# Altium footprint library Driver.pcblib: 20 footprints (part 1 of 2)
Each footprint in its own frame and in the unit in brackets; x right, y up, seen from the top. Pads: shape width x height; smd on the part's side, far side on the other; paste and mask are expansions set on the pad; w line width, h text height; cw(c..) or ccw(c..) is an arc to the next point about the centre after c.
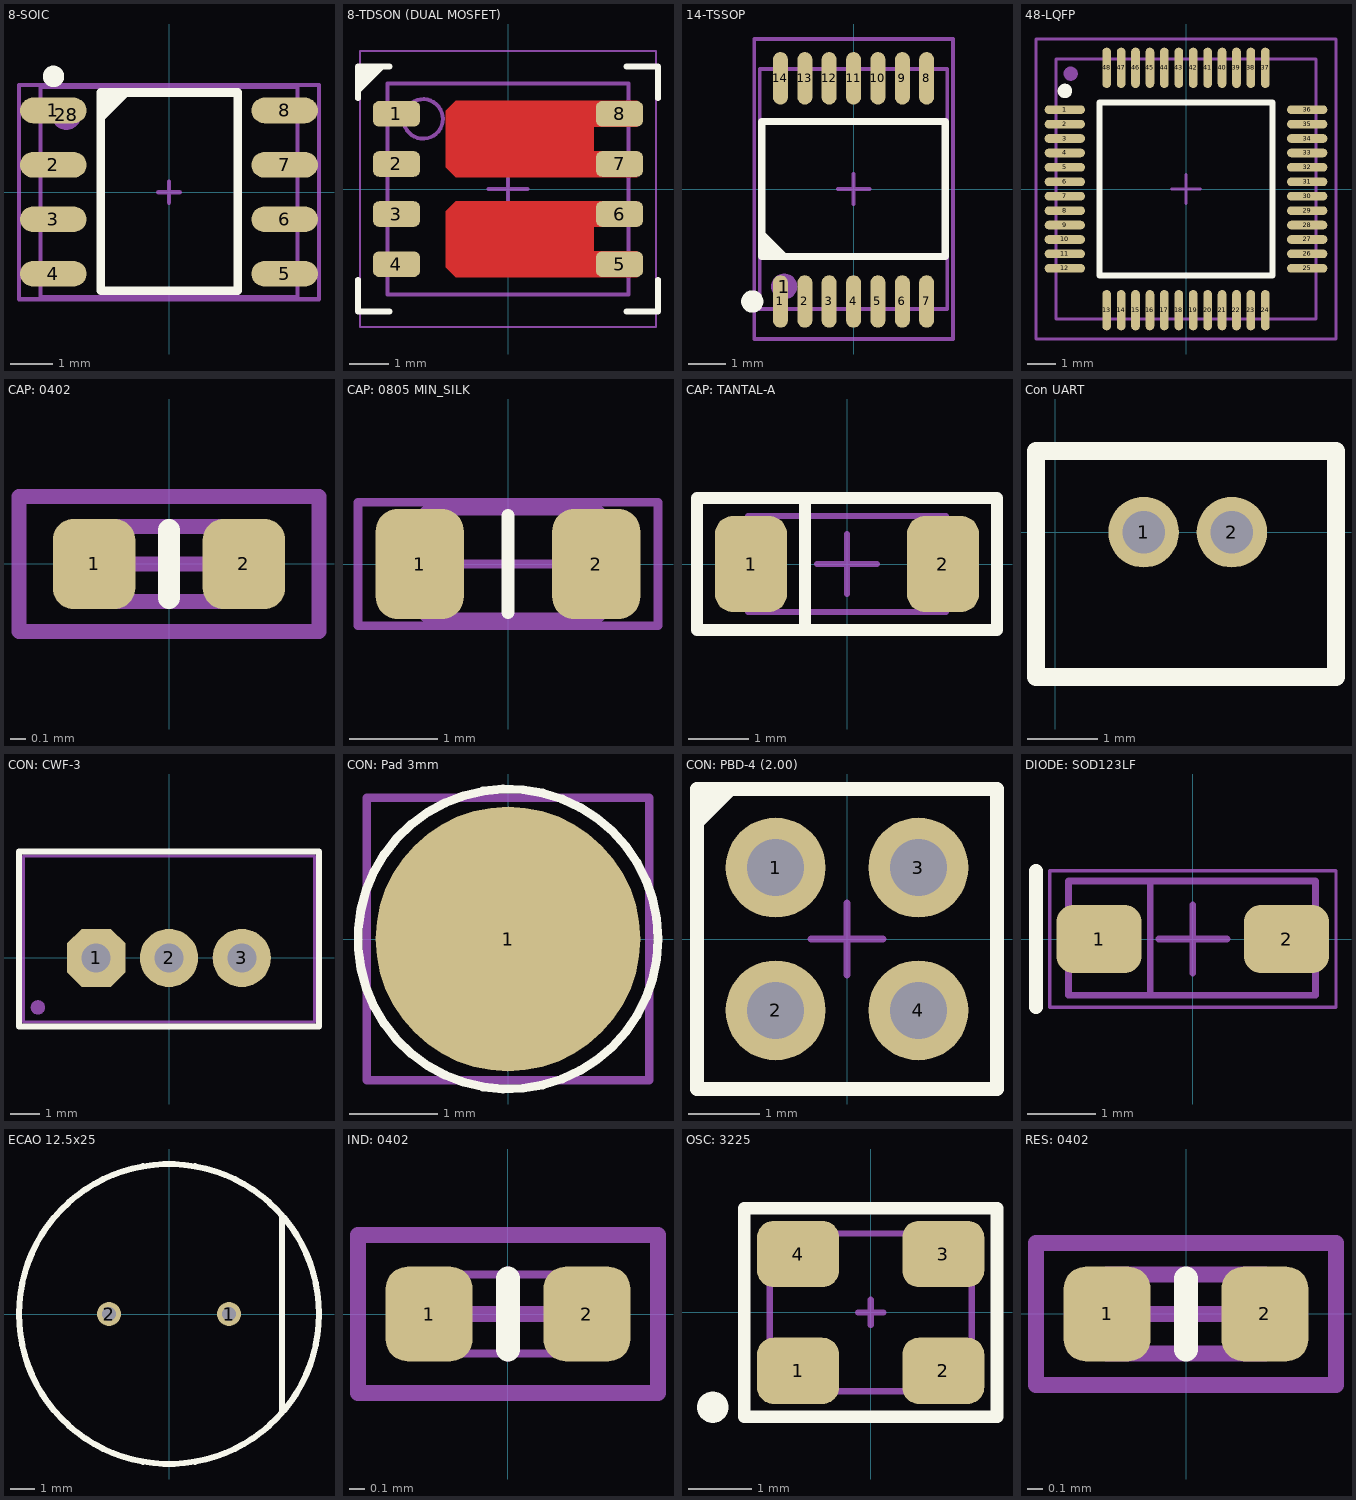
[diagram p0: the footprints below, top view; thin cyan lines are the x and y axes]

## 8-SOIC [mm]
pads (9):
  rrect100% 1.55x0.6 smd: 1(-2.7,1.905) 2(-2.7,0.635) 3(-2.7,-0.635) 4(-2.7,-1.905) 5(2.7,-1.905) 6(2.7,-0.635) 7(2.7,0.635) 8(2.7,1.905)
  round 0.7 on Mech1: 28(-2.395,1.8)
Top Overlay:
  circle w0.25: c-2.695,2.7 r0.125
  region: -1.595,2.325 -1.595,1.605 -0.875,2.325
  lines w0.2: -1.595,-2.3 -1.595,2.325 1.605,2.325 1.605,-2.3 -1.595,-2.3
Mechanical 1:
  lines w0.1: -3,-2.45 3,-2.45 3,2.45 -3,2.45 -3,-2.45
Top Assembly:
  lines w0.1: -0.25,0 0.25,0 ; 0,-0.25 0,0.25 ; -3.5,-2.5 3.5,-2.5 3.5,2.5 -3.5,2.5 -3.5,-2.5
3D body "User Library-SOIC-8-1.STEP": height 1.75, standoff 0, extent -3,-2.45 3,2.45

## 8-TDSON (DUAL MOSFET) [mm]
pads (8):
  rrect50% 1.2x0.65 smd: 1(-2.825,1.905) 2(-2.825,0.635) 3(-2.825,-0.635) 4(-2.825,-1.905) 5(2.825,-1.905) 6(2.825,-0.635) 7(2.825,0.635) 8(2.825,1.905)
Top Layer:
  region: 3.275,-0.311 -1.325,-0.311 -1.575,-0.561 -1.575,-1.98 -1.325,-2.23 3.275,-2.23 3.275,-1.58 2.175,-1.58 2.175,-0.959 3.275,-0.959
  region: 3.275,2.23 -1.325,2.23 -1.575,1.98 -1.575,0.55 -1.325,0.3 3.275,0.3 3.275,0.961 2.175,0.961 2.175,1.579 3.275,1.579
Top Overlay:
  region: -3.8,2.4 -3.1,3.1 -3.8,3.1
  lines w0.15: -3.8,-2.3 -3.8,-3.1 -3,-3.1 ; -3.8,2.3 -3.8,3.1 -3,3.1 ; 3,-3.1 3.8,-3.1 3.8,-2.3 ; 3,3.1 3.8,3.1 3.8,2.3
Top Assembly:
  circle w0.1: c-2.15,1.775 r0.5
  lines w0.05: -3.75,-3.5 -3.75,3.5 3.75,3.5 3.75,-3.5 -3.75,-3.5
  lines w0.1: -0.5,0 0.5,0 ; 0,-0.5 0,0.5 ; -3.05,-2.675 -3.05,2.675 3.05,2.675 3.05,-2.675 -3.05,-2.675
3D body "SON127P590X100-8L.step": height 1, standoff 0, extent -3.1,-2.675 3.1,2.675

## 14-TSSOP [mm]
pads (16):
  rrect100% 0.4x1.4 smd: 1(-1.95,-3) 2(-1.3,-3) 3(-0.65,-3) 4(0,-3) 5(0.65,-3) 6(1.3,-3) 7(1.95,-3) 8(1.95,2.95) 9(1.3,2.95) 10(0.65,2.95) 11(0,2.95) 12(-0.65,2.95) 13(-1.3,2.95) 14(-1.95,2.95)
  round 0.7 on Mech1: 1(-1.85,-2.6)
  round 0.6 on Top Overlay: ""(-2.7,-3)
Top Overlay:
  region: -2.45,-1.8 -1.73,-1.8 -2.45,-1.08
  lines w0.2: -2.45,-1.8 -2.45,1.8 2.45,1.8 2.45,-1.8 -2.45,-1.8
Mechanical 1:
  lines w0.1: -2.5,3.2 -2.5,-3.2 2.5,-3.2 2.5,3.2 -2.5,3.2 ; -2.5,3.2 -2.5,3.2
Top Assembly:
  lines w0.1: -0.425,0 0.425,0 ; 0,-0.4 0,0.4 ; -2.65,-4 2.65,-4 2.65,-0.6 2.65,4 -2.65,4 -2.65,-4
3D body "SW3dPS-TSSOP14-1.STEP": height 1.1, standoff 0, extent -2.5,-3.2 2.5,3.2

## 48-LQFP [mm]
pads (49):
  oval 1.4x0.3 smd: 1(-4.2,2.75) 2(-4.2,2.25) 3(-4.2,1.75) 4(-4.2,1.25) 5(-4.2,0.75) 6(-4.2,0.25) 7(-4.2,-0.25) 8(-4.2,-0.75) 9(-4.2,-1.25) 10(-4.2,-1.75) 11(-4.2,-2.25) 12(-4.2,-2.75) 25(4.2,-2.75) 26(4.2,-2.25) 27(4.2,-1.75) 28(4.2,-1.25) 29(4.2,-0.75) 30(4.2,-0.25) 31(4.2,0.25) 32(4.2,0.75) 33(4.2,1.25) 34(4.2,1.75) 35(4.2,2.25) 36(4.2,2.75)
  oval 0.3x1.4 smd: 13(-2.75,-4.2) 14(-2.25,-4.2) 15(-1.75,-4.2) 16(-1.25,-4.2) 17(-0.75,-4.2) 18(-0.25,-4.2) 19(0.25,-4.2) 20(0.75,-4.2) 21(1.25,-4.2) 22(1.75,-4.2) 23(2.25,-4.2) 24(2.75,-4.2) 37(2.75,4.2) 38(2.25,4.2) 39(1.75,4.2) 40(1.25,4.2) 41(0.75,4.2) 42(0.25,4.2) 43(-0.25,4.2) 44(-0.75,4.2) 45(-1.25,4.2) 46(-1.75,4.2) 47(-2.25,4.2) 48(-2.75,4.2)
  round 0.5 on Mech1: ""(-4,4)
Top Overlay:
  circle w0.25: c-4.2,3.4 r0.125
  lines w0.2: -3,-3 3,-3 3,3 -3,3 -3,-3
Mechanical 1:
  lines w0.1: -4.5,-4.5 4.5,-4.5 4.5,4.5 -4.5,4.5 -4.5,-4.5
Top Assembly:
  lines w0.1: -0.5,0 0.5,0 ; 0,-0.5 0,0.5 ; -5.2,-5.2 5.2,-5.2 5.2,5.2 -5.2,5.2 -5.2,-5.2
3D body "User Library-LQFP48_Grid_0_5.STEP": height 1.6, standoff 0, extent -4.5,-4.5 4.5,4.5

## CAP: 0402 [mm]
pads (2):
  rrect50% 0.55x0.6 smd: 1(-0.5,0) 2(0.5,0)
Top Overlay:
  lines w0.15: 0,-0.225 0,0.225
Mechanical 1:
  lines w0.1: -0.5,-0.25 0.5,-0.25 0.5,0.25 -0.5,0.25 -0.5,-0.25
Top Assembly:
  lines w0.1: -0.25,0 0.25,0 ; 0,-0.25 0,0.25 ; -1,-0.45 -1,0.45 1,0.45 1,-0.45 -1,-0.45
3D body "User Library-0402(1005M) Cap.step": height 0.51, standoff 0, extent -0.508,-0.254 0.508,0.254

## CAP: 0805 MIN_SILK [mm]
pads (2):
  rrect50% 1x1.25 smd: 1(-1,0) 2(1,0)
Top Overlay:
  lines w0.15: 0,-0.55 0,0.55
Mechanical 1:
  lines w0.1: -0.949,-0.6 -0.949,0.6 1.05,0.6 1.05,-0.6 -0.949,-0.6
Top Assembly:
  lines w0.1: -0.5,0 0.5,0 ; 0,-0.5 0,0.5 ; -1.7,-0.7 1.7,-0.7 1.7,0.7 -1.7,0.7 -1.7,-0.7
3D body "SW3dPS-0805 SMD Capacitor.STEP": height 0.78, standoff 0, extent -1,-0.625 1,0.625

## CAP: TANTAL-A [mm]
pads (2):
  rrect50% 1.2x1.6 smd: 1(-1.6,0) 2(1.6,0)
Top Overlay:
  lines w0.2: -0.7,-1 -0.7,1 ; -2.5,-1.1 2.5,-1.1 2.5,1.1 -2.5,1.1 -2.5,-1.1
Mechanical 1:
  lines w0.1: -0.7,-0.8 -0.7,0.8 ; -1.651,-0.8 1.651,-0.8 1.651,0.8 -1.651,0.8 -1.651,-0.8
Top Assembly:
  lines w0.1: -0.5,0 0.5,0 ; 0,-0.5 0,0.5 ; -2.5,-1.1 -2.5,1.1 2.5,1.1 2.5,-1.1 -2.5,-1.1
3D body "User Library-AVX_ACASE.STEP": height 1.71, standoff 0, extent -1.7,-0.84 1.7,0.84

## Con UART [mm]
pads (2):
  round 1 hole 0.6: 1(1.25,0) 2(2.5,0)
Top Overlay:
  lines w0.254: -0.275,-2.05 3.975,-2.05 3.975,1.15 -0.275,1.15 -0.275,-2.05
3D body "53047-0210.stp": height 4.28, standoff -2.22, extent -0.275,-2.05 3.975,1.15

## CON: CWF-3 [mm]
pads (4):
  oct 2x2 hole 1: 1(-2.5,0)
  round 2 hole 1: 2(0,0) 3(2.5,0)
  round 0.5 on Mech1: ""(-4.5,-1.7)
Top Overlay:
  lines w0.2: -5.15,-2.35 -5.15,3.65 5.15,3.65 5.15,-2.35 -5.15,-2.35
Mechanical 1:
  lines w0.1: -5,-2.2 5,-2.2 5,3.5 -5,3.5 -5,-2.2
Top Assembly:
  lines w0.1: -0.5,0 0.5,0 ; 0,-0.5 0,0.5 ; -5.15,-2.35 -5.15,3.65 5.15,3.65 5.15,-2.35 -5.15,-2.35
3D body "CWF-3.step": height 7, standoff -3.5, extent -5,-2.2 5,3.55

## CON: Pad 3mm [mm]
pads (1):
  round 3 smd: 1(0,0)
Top Overlay:
  circle w0.1: c0,0 r1.7
Top Assembly:
  lines w0.1: -0.25,0 0.25,0 ; 0,-0.25 0,0.25 ; -1.6,-1.6 -1.6,1.6 1.6,1.6 1.6,-1.6 -1.6,-1.6

## CON: PBD-4 (2.00) [mm]
pads (4):
  round 1.4 hole 0.8: 1(-1,1) 2(-1,-1) 3(1,1) 4(1,-1)
Top Overlay:
  region: -2.1,1.5 -1.5,2.1 -2.1,2.1
  lines w0.2: -2.1,-2.1 -2.1,2.1 2.1,2.1 2.1,-2.1 -2.1,-2.1
Mechanical 1:
  lines w0.1: -2.1,-2.1 -2.1,2.1 2.1,2.1 2.1,-2.1 -2.1,-2.1
Top Assembly:
  lines w0.1: -0.5,0 0.5,0 ; 0,-0.5 0,0.5 ; -2.1,-2.1 -2.1,2.1 2.1,2.1 2.1,-2.1 -2.1,-2.1
3D body "791077001-1.STEP": height 4.22, standoff -3.22, extent -2.095,-2.095 2.095,2.095

## DIODE: SOD123LF [mm]
pads (2):
  rrect50% 1.25x1 smd: 1(-1.375,0) 2(1.375,0)
Top Overlay:
  lines w0.2: -2.3,-1 -2.3,1
Mechanical 1:
  lines w0.1: -0.625,-0.825 -0.625,0.85 ; -1.825,-0.825 1.8,-0.825 1.8,0.85 -1.825,0.85 -1.825,-0.825
Top Assembly:
  lines w0.05: -2.1,-1 -2.1,1 2.1,1 2.1,-1 -2.1,-1
  lines w0.1: -0.5,0 0.5,0 ; 0,-0.5 0,0.5
3D body "User Library-MBR140SF.STEP": height 0.95, standoff 0, extent -1.8,-0.825 1.8,0.825

## ECAO 12.5x25 [mm]
pads (2):
  round 1 hole 0.6: 1(2.5,0) 2(-2.5,0)
Top Overlay:
  circle w0.254: c0,0 r6.25
  lines w0.254: 4.7,-4.1 4.7,4.1
3D body "User Library-Cap-EL(12_5x25-5)T.step": height 25.5, standoff -3.5, extent -6.25,-6.25 6.252,6.25

## IND: 0402 [mm]
pads (2):
  rrect50% 0.55x0.6 smd: 1(-0.5,0) 2(0.5,0)
Top Overlay:
  lines w0.15: 0,-0.225 0,0.225
Mechanical 1:
  lines w0.05: -0.5,-0.25 -0.5,0.25 0.5,0.25 0.5,-0.25 -0.5,-0.25
Top Assembly:
  lines w0.1: -0.25,0 0.25,0 ; 0,-0.25 0,0.25 ; -0.95,-0.5 -0.95,0.5 0.95,0.5 0.95,-0.5 -0.95,-0.5
3D body "User Library-FB_1005.STEP": height 0.5, standoff 0, extent -0.5,-0.25 0.5,0.25

## OSC: 3225 [mm]
pads (5):
  rrect50% 1.3x1.05 smd: 1(-1.15,-0.925) 2(1.15,-0.925) 3(1.15,0.925) 4(-1.15,0.925)
  round 0.5 on Top Overlay: ""(-2.5,-1.5)
Top Overlay:
  lines w0.2: -2,-1.65 2,-1.65 2,1.65 -2,1.65 -2,-1.65
Mechanical 1:
  lines w0.1: -1.6,-1.25 -1.6,1.25 1.6,1.25 1.6,-1.25 -1.6,-1.25
Top Assembly:
  lines w0.1: -0.2,0 0.2,0 ; 0,-0.2 0,0.2 ; -2,-1.7 -2,1.7 2,1.7 2,1.6 2,-1.7 -2,-1.7
3D body "User Library-User Library-Siward_SX3225.step": height 0.81, standoff 0, extent -1.6,-1.25 1.6,1.25

## RES: 0402 [mm]
pads (2):
  rrect50% 0.55x0.6 smd: 1(-0.5,0) 2(0.5,0)
Top Overlay:
  lines w0.15: 0,-0.225 0,0.225
Mechanical 1:
  lines w0.1: -0.5,-0.25 0.5,-0.25 0.5,0.25 -0.5,0.25 -0.5,-0.25
Top Assembly:
  lines w0.1: -0.25,0 0.25,0 ; 0,-0.25 0,0.25 ; -0.95,-0.45 0.95,-0.45 0.95,0.45 -0.95,0.45 -0.95,-0.45
3D body "chip_0402_r.STEP": height 0.34, standoff -0.02, extent -0.525,-0.25 0.475,0.25